# Altium footprint library FMC_SDR.PcbLib: 34 footprints (part 3 of 3)
Each footprint in its own frame and in the unit in brackets; x right, y up, seen from the top. Pads: shape width x height; smd on the part's side, far side on the other; paste and mask are expansions set on the pad; w line width, h text height; cw(c..) or ccw(c..) is an arc to the next point about the centre after c.
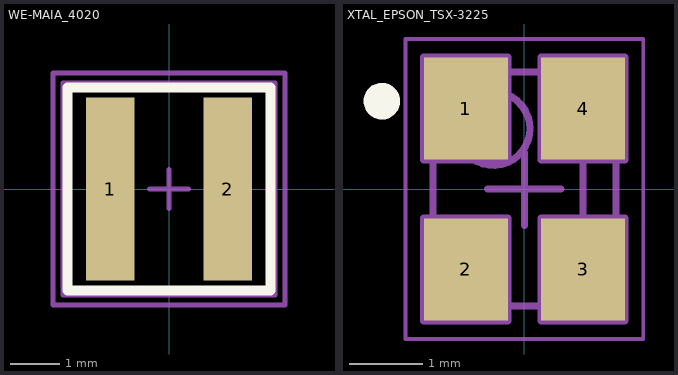
[diagram p2: the footprints below, top view; thin cyan lines are the x and y axes]

## WE-MAIA_4020 [mm] "SMD Power Inductor, 2-leads, body 4.1x4.1mm"
height 2.1
pads (2):
  rect 0.98x3.7 smd: 1(-1.185,0) 2(1.185,0)
Top Overlay:
  lines w0.2: -2.05,-2.05 -2.05,2.05 2.05,2.05 2.05,-2.05 -2.05,-2.05
Mechanical 11:
  lines w0.1: -2.05,-2.05 2.05,-2.05 2.05,2.05 -2.05,2.05 -2.05,-2.05
Mechanical 13:
  lines w0.1: -2.15,-2.15 -2.15,2.15 2.15,2.15 2.15,-2.15 -2.15,-2.15
Mechanical 15:
  lines w0.1: -0.4,0 0.4,0 ; 0,-0.4 0,0.4 ; -2.35,-2.35 2.35,-2.35 2.35,2.35 -2.35,2.35 -2.35,-2.35
3D body "WE-IndMAIA_SSMC-403020-S.stp": height 2.13, standoff 0.03, extent -2.05,-2.05 2.05,2.05

## XTAL_EPSON_TSX-3225 [mm] "Crystal TSX-3225 Serie, Corner Concave; 4 pin, 2.50mm L X 3.2mm W X 0.6mm H"
height 0.6
pads (4):
  rect 1.15x1.4 smd: 1(-0.8,1.1) 2(-0.8,-1.1) 3(0.8,-1.1) 4(0.8,1.1)
Top Overlay:
  circle w0.25: c-1.95,1.2 r0.125
Mechanical 8:
  lines w0.1: -1.3,-1.1 -0.8,-1.1 ; -1.3,1.1 -0.8,1.1 ; -0.8,-1.6 -0.8,-1.1 ; -0.8,-0.6 -0.8,-1.1 ; -0.8,0.6 -0.8,1.1 ; -0.8,1.6 -0.8,1.1 ; -0.75,0.93 -0.75,1.43 ; -0.5,0 0,0 ; -0.3,-1.1 -0.8,-1.1 ; -0.3,1.1 -0.8,1.1 ; 0,-0.5 0,0 ; 0,0.5 0,0 ; 0.3,-1.1 0.8,-1.1 ; 0.3,1.1 0.8,1.1 ; 0.5,0 0,0 ; 0.8,-1.6 0.8,-1.1 ; 0.8,-0.6 0.8,-1.1 ; 0.8,0.6 0.8,1.1 ; 0.8,1.6 0.8,1.1 ; 1.3,-1.1 0.8,-1.1 ; 1.3,1.1 0.8,1.1 ; 0.8,-1.1 0.8,1.1 ; -1.375,-1.8 -1.375,-0.4 -0.225,-0.4 -0.225,-1.8 -1.375,-1.8 ; -1.375,0.4 -1.375,1.8 -0.225,1.8 -0.225,0.4 -1.375,0.4 ; 0.225,-1.8 0.225,-0.4 1.375,-0.4 1.375,-1.8 0.225,-1.8 ; 0.225,0.4 0.225,1.8 1.375,1.8 1.375,0.4 0.225,0.4
Mechanical 14:
  circle w0.1: c-0.425,0.825 r0.5
  lines w0.1: -1.25,-1.5 cw(c-1.25,-1.6) -1.15,-1.6 1.15,-1.6 cw(c1.25,-1.6) 1.25,-1.5 1.25,1.5 cw(c1.25,1.6) 1.15,1.6 -1.15,1.6 cw(c-1.25,1.6) -1.25,1.5 -1.25,-1.5
Mechanical 15:
  lines w0.05: -1.625,-2.05 -1.625,2.05 1.625,2.05 1.625,-2.05 -1.625,-2.05
3D body "XTAL_EPSON_TSX-3225.stp": height 0.6, standoff 0, extent -1.25,-1.6 1.25,1.6